# Altium footprint library 载流板Ver0.1.PcbLib: 2 footprints
Each footprint in its own frame and in the unit in brackets; x right, y up, seen from the top. Pads: shape width x height; smd on the part's side, far side on the other; paste and mask are expansions set on the pad; w line width, h text height; cw(c..) or ccw(c..) is an arc to the next point about the centre after c.
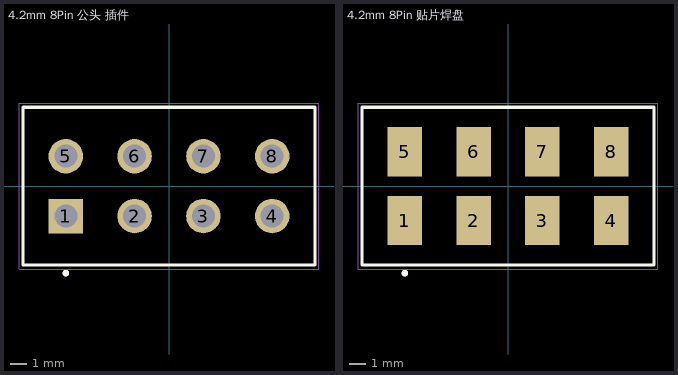
[diagram p0: the footprints below, top view; thin cyan lines are the x and y axes]

## 4.2mm 8Pin 公头 插件 [mm] "4.2mm 8Pin 公头 插件"
height 1.1
pads (8):
  rect 2.1x2.1 hole 1.4: 1(-6.285,-1.82)
  round 2.1 hole 1.4: 2(-2.095,-1.82) 3(2.095,-1.82) 4(6.285,-1.82) 5(-6.285,1.82) 6(-2.095,1.82) 7(2.095,1.82) 8(6.285,1.82)
Top Overlay:
  circle w0.2: c-6.285,-5.3 r0.1
  lines w0.2: -8.885,-4.8 8.885,-4.8 8.885,4.8 -8.885,4.8 -8.885,-4.8
Mechanical 13:
  circle w0.2: c-6.285,-5.3 r0.1
  lines w0.1: -8.885,-4.8 8.885,-4.8 8.885,4.8 -8.885,4.8 -8.885,-4.8
Mechanical 15:
  lines w0.05: -9.135,-5.05 9.135,-5.05 9.135,5.05 -9.135,5.05 -9.135,-5.05
3D body "IPBS-104-01-T-D.stp": height 12.19, standoff -3.94, extent -8.89,-4.801 8.89,4.801

## 4.2mm 8Pin 贴片焊盘 [mm] "4.2mm 8Pin 贴片焊盘"
pads (8):
  rect 2.1x3 smd: 1(-6.285,-2.1) 2(-2.095,-2.1) 3(2.095,-2.1) 4(6.285,-2.1) 5(-6.285,2.1) 6(-2.095,2.1) 7(2.095,2.1) 8(6.285,2.1)
Top Overlay:
  circle w0.2: c-6.285,-5.3 r0.1
  lines w0.2: -8.885,-4.8 -8.885,4.8 8.885,4.8 8.885,-4.8 -8.885,-4.8
Mechanical 13:
  circle w0.2: c-6.285,-5.3 r0.1
  lines w0.1: -8.885,-4.8 -8.885,4.8 8.885,4.8 8.885,-4.8 -8.885,-4.8
Mechanical 15:
  lines w0.05: -9.135,-5.05 -9.135,5.05 9.135,5.05 9.135,-5.05 -9.135,-5.05